# EAGLE library part ARDUINO_MINI (library Arduino)
Arduino Mini
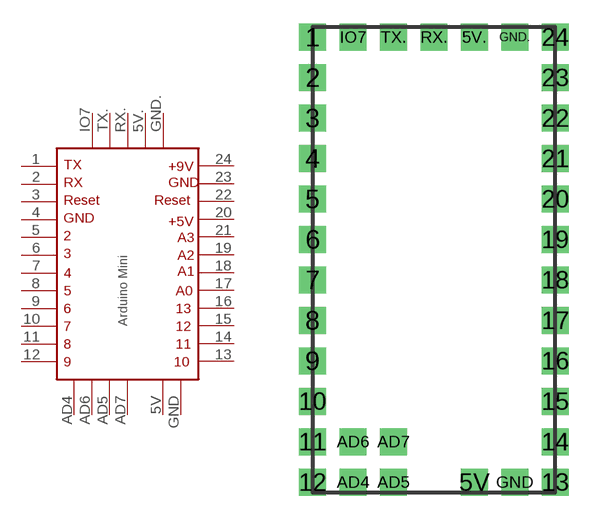
[diagram p0: symbol with the pads of ARDUINO_MINI; footprint ARDUINO_MINI]

Designator prefix IC

## ARDUINO_MINI  [ARDUINO_MINI]
1  P$1  pas
2  P$2  pas
3  P$3  pas
4  P$4  pas
5  P$5  pas
5V  P$17  pas
5V.  P$32  pas
6  P$6  pas
7  P$7  pas
8  P$8  pas
9  P$9  pas
10  P$10  pas
11  P$11  pas
12  P$12  pas
13  P$19  pas
14  P$20  pas
15  P$21  pas
16  P$22  pas
17  P$23  pas
18  P$24  pas
19  P$25  pas
20  P$26  pas
21  P$27  pas
22  P$28  pas
23  P$29  pas
24  P$30  pas
AD4  P$13  pas
AD5  P$15  pas
AD6  P$14  pas
AD7  P$16  pas
GND  P$18  pas
GND.  P$31  pas
IO7  P$35  pas
RX.  P$33  pas
TX.  P$34  pas

## Footprint ARDUINO_MINI (pad centres in mm)
Arduino Mini
drill 0.8 pad 1.676 square: 1 -7.62,12.7; 2 -7.62,10.16; 3 -7.62,7.62; 4 -7.62,5.08; 5 -7.62,2.54; 5V 2.54,-15.24; 5V. 2.54,12.7; 6 -7.62,0; 7 -7.62,-2.54; 8 -7.62,-5.08; 9 -7.62,-7.62; 10 -7.62,-10.16; 11 -7.62,-12.7; 12 -7.62,-15.24; 13 7.62,-15.24; 14 7.62,-12.7; 15 7.62,-10.16; 16 7.62,-7.62; 17 7.62,-5.08; 18 7.62,-2.54; 19 7.62,0; 20 7.62,2.54; 21 7.62,5.08; 22 7.62,7.62; 23 7.62,10.16; 24 7.62,12.7; AD4 -5.08,-15.24; AD5 -2.54,-15.24; AD6 -5.08,-12.7; AD7 -2.54,-12.7; GND 5.08,-15.24; GND. 5.08,12.7; IO7 -5.08,12.7; RX. 0,12.7; TX. -2.54,12.7